# Altium schematic symbol library LTC2955CTS8-1.SchLib: 1 symbol
Pins are listed as number, name and electrical type; pins without a type are passive.

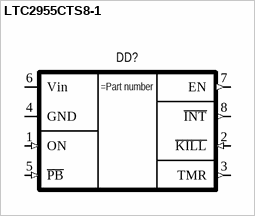
[diagram p0: symbol LTC2955CTS8-1]

## LTC2955CTS8-1
designator DD?
Pushbutton On/Off Controller with Automatic Turn-On
pins: 1 ON (in), 2 ~{KILL} (in), 3 TMR (out), 4 GND (power), 5 ~{PB} (in), 6 Vin (power), 7 EN (out), 8 ~{INT} (out)